# EAGLE library part 10X1PIN-2.0MM-F-HEADER (library Itead-misc)
CON002
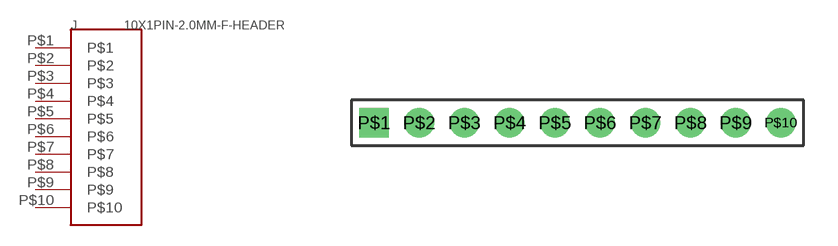
[diagram p0: symbol with the pads of 10X1-2.0MM; footprint 10X1-2.0MM]

Designator prefix J

## 10X1PIN-2.0MM-F-HEADER  [10X1-2.0MM]
P$1  P$1
P$2  P$2
P$3  P$3
P$4  P$4
P$5  P$5
P$6  P$6
P$7  P$7
P$8  P$8
P$9  P$9
P$10  P$10

## Footprint 10X1-2.0MM (pad centres in mm)
drill 0.8 square: P$1 0,0
drill 0.8 round: P$2 2,0; P$3 4,0; P$4 6,0; P$5 8,0; P$6 10,0; P$7 12,0; P$8 14,0; P$9 16,0; P$10 18,0